# Altium schematic symbol library ADG1434YRUZ.SchLib: 1 symbol
Pins are listed as number, name and electrical type; pins without a type are passive.

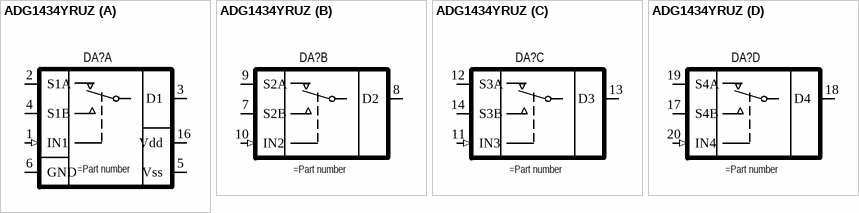
[diagram p0: symbol ADG1434YRUZ]

## ADG1434YRUZ
designator DA?
4 Ω RON, Triple/Quad SPDT ±15 V/+12 V/±5 V iCMOS Switches
part A pins: 1 IN1 (in), 2 S1A (io), 3 D1 (io), 4 S1B (io), 5 Vss (power), 6 GND (power), 16 Vdd (power)
part B pins: 7 S2B (io), 8 D2 (io), 9 S2A (io), 10 IN2 (in)
part C pins: 11 IN3 (in), 12 S3A (io), 13 D3 (io), 14 S3B (io)
part D pins: 17 S4B (io), 18 D4 (io), 19 S4A (io), 20 IN4 (in)